# Altium footprint library RF-SHIELD-V2.PcbLib: 1 footprints
Each footprint in its own frame and in the unit in brackets; x right, y up, seen from the top. Pads: shape width x height; smd on the part's side, far side on the other; paste and mask are expansions set on the pad; w line width, h text height; cw(c..) or ccw(c..) is an arc to the next point about the centre after c.
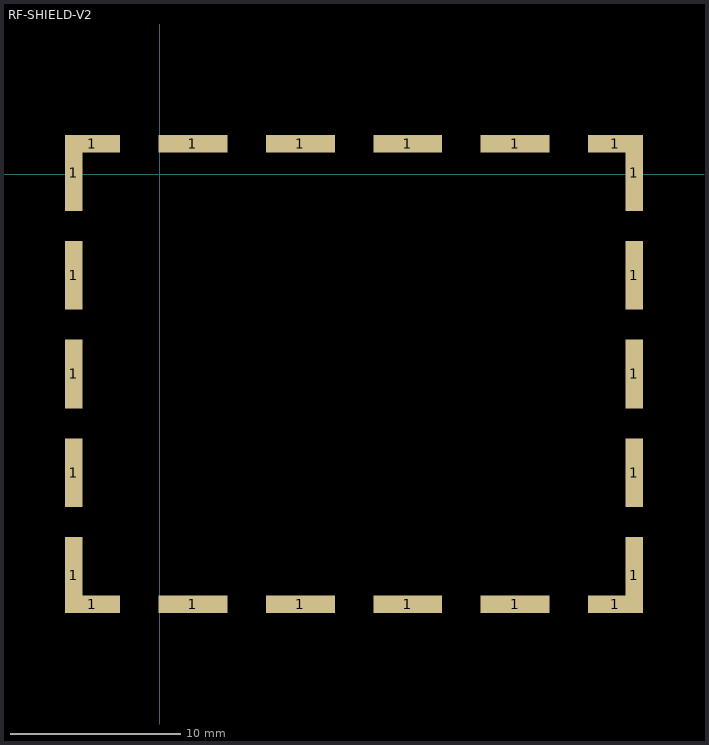
[diagram p0: the footprint, top view; thin cyan lines are the x and y axes]

## RF-SHIELD-V2 [mm]
pads (22):
  rect 1.04x4.45 smd: 1(-5.03,-23.51) 1(-5.03,0.07) 1(27.83,-23.51) 1(27.83,0.07)
  rect 1.04x4.04 smd: 1(-5.03,-17.51) 1(-5.03,-11.72) 1(-5.03,-5.93) 1(27.83,-17.51) 1(27.83,-11.72) 1(27.83,-5.93)
  rect 3.23x1.04 smd: 1(-3.937,-25.22) 1(-3.937,1.78) 1(26.73,-25.22) 1(26.73,1.78)
  rect 4.04x1.04 smd: 1(1.96,-25.22) 1(1.96,1.78) 1(8.26,-25.22) 1(8.26,1.78) 1(14.55,-25.22) 1(14.55,1.78) 1(20.84,-25.22) 1(20.84,1.78)
3D body: height 5.1, standoff 5, extent -5.63,-25.85 28.75,2.38
3D body: height 0.25, standoff 0, extent 0.39,-4.62 0.39,-4.62